# Altium schematic symbol library RLC.SchLib: 218 symbols (part 3 of 3)
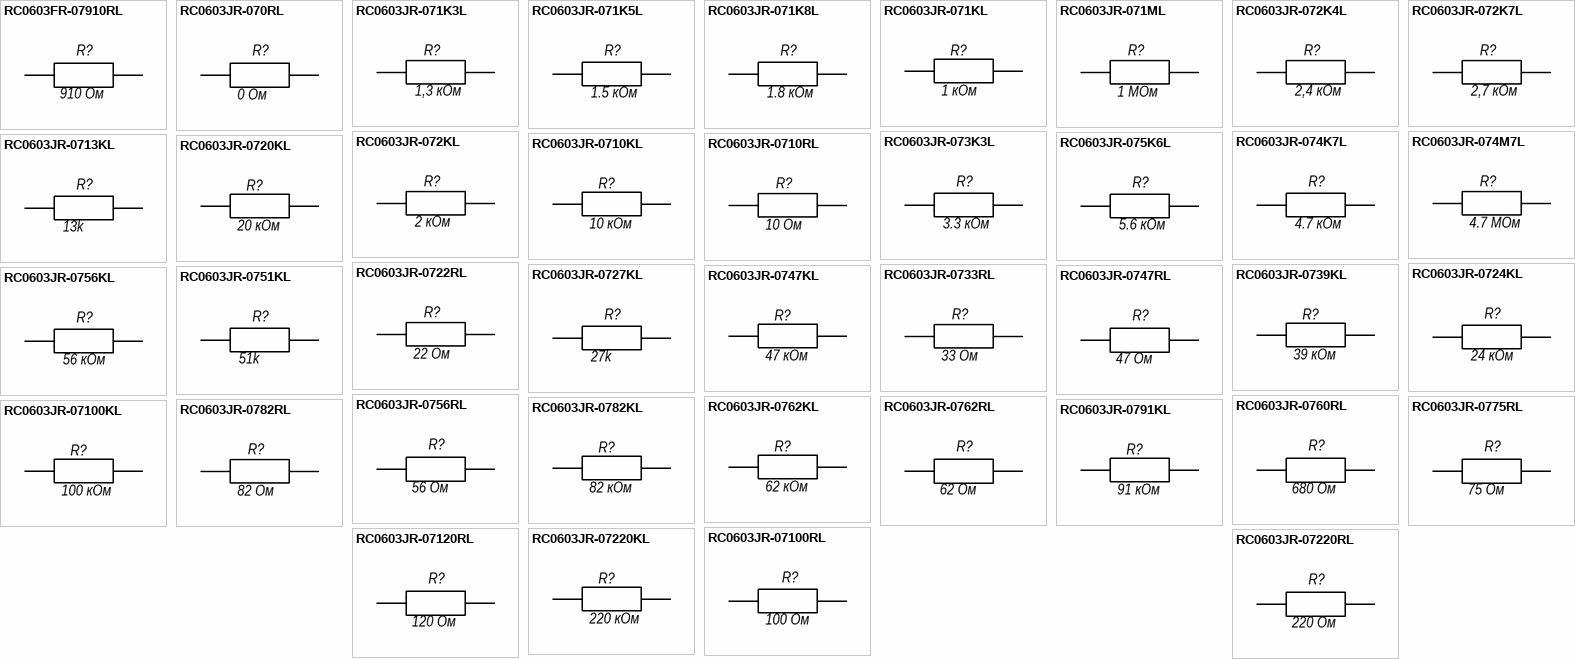
[diagram p7: symbols RC0603FR-07910RL to RC0603JR-07220RL]

## RC0603JR-0756KL
designator R?, comment 56 кОм
SMD 0603 -56 кОм±5 %; Part Number: RC0603JR-0756KL; Manufacturer: Yageo; BOM1: R0603 -56K Ohm±5 %; BOM2: RС0603 ±5 %-56 кОм; ValueBOM: RC0603JR-0756KL   Yageo                            (RС0603 ±5 %-56 кОм); Value: 56 кОм; Package: 0603
footprint RESC_0603_1608N (Chip Resistor, Body 1.6x0.8mm, IPC Medium Density)
footprint RESC_0603_1608M (Chip Resistor, Body 1.6x0.8mm, IPC Low Density)
footprint RESC_0603_1608L (Chip Resistor, Body 1.6x0.8mm, IPC High Density)
pins: 1, 2

## RC0603JR-0756RL
designator R?, comment 56 Ом
SMD 0603 -56 Ом±5 %; Part Number: RC0603JR-0756RL; Manufacturer: Yageo; BOM1: R0603 -56 Ohm±5 %; BOM2: RС0603 ±5 %-56 Ом; ValueBOM: RC0603JR-0756RL   Yageo                            (RС0603 ±5 %-56 Ом); Value: 56 Ом; Package: 0603
footprint RESC_0603_1608N (Chip Resistor, Body 1.6x0.8mm, IPC Medium Density)
footprint RESC_0603_1608M (Chip Resistor, Body 1.6x0.8mm, IPC Low Density)
footprint RESC_0603_1608L (Chip Resistor, Body 1.6x0.8mm, IPC High Density)
pins: 1, 2

## RC0603JR-0760RL
designator R?, comment 680 Ом
SMD 0603 -680 Ом±5 %; Part Number: RC0603FR-07680RL; Manufacturer: Yageo; BOM1: R0603 -680 Ohm±5 %; BOM2: RС0603 ±5 %-680 Ом; ValueBOM: RC0603FR-07680RL   Yageo                            (RС0603 ±5 %-680 Ом); Value: 680 Ом; Package: 0603
footprint RESC_0603_1608N (Chip Resistor, Body 1.6x0.8mm, IPC Medium Density)
footprint RESC_0603_1608M (Chip Resistor, Body 1.6x0.8mm, IPC Low Density)
footprint RESC_0603_1608L (Chip Resistor, Body 1.6x0.8mm, IPC High Density)
pins: 1, 2

## RC0603JR-0762KL
designator R?, comment 62 кОм
SMD 0603 -62 кОм±5 %; Part Number: RC0603JR-0762KL; Manufacturer: Yageo; BOM1: R0603 -62K Ohm±5 %; BOM2: RС0603 ±5 %-62 кОм; ValueBOM: RC0603JR-0762KL   Yageo                            (RС0603 ±5 %-62 кОм); Value: 62 кОм; Package: 0603
footprint RESC_0603_1608N (Chip Resistor, Body 1.6x0.8mm, IPC Medium Density)
footprint RESC_0603_1608M (Chip Resistor, Body 1.6x0.8mm, IPC Low Density)
footprint RESC_0603_1608L (Chip Resistor, Body 1.6x0.8mm, IPC High Density)
pins: 1, 2

## RC0603JR-0762RL
designator R?, comment 62 Ом
SMD 0603 -62 Ом±5 %; Part Number: RC0603JR-0762RL; Manufacturer: Yageo; BOM1: R0603 -62 Ohm±5 %; BOM2: RС0603 ±5 %-62 Ом; ValueBOM: RC0603JR-0762RL   Yageo                            (RС0603 ±5 %-62 Ом); Value: 62 Ом; Package: 0603
footprint RESC_0603_1608N (Chip Resistor, Body 1.6x0.8mm, IPC Medium Density)
footprint RESC_0603_1608M (Chip Resistor, Body 1.6x0.8mm, IPC Low Density)
footprint RESC_0603_1608L (Chip Resistor, Body 1.6x0.8mm, IPC High Density)
pins: 1, 2

## RC0603JR-0775RL
designator R?, comment 75 Ом
SMD 0603 -75 Ом±5 %; Part Number: RC0603JR-0775RL; Manufacturer: Yageo; BOM1: R0603 -75 Ohm±5 %; BOM2: RС0603 ±5 %-75 Ом; ValueBOM: RC0603JR-0775RL   Yageo                            (RС0603 ±5 %-75 Ом); Value: 75 Ом; Package: 0603
footprint RESC_0603_1608N (Chip Resistor, Body 1.6x0.8mm, IPC Medium Density)
footprint RESC_0603_1608M (Chip Resistor, Body 1.6x0.8mm, IPC Low Density)
footprint RESC_0603_1608L (Chip Resistor, Body 1.6x0.8mm, IPC High Density)
pins: 1, 2

## RC0603JR-0782KL
designator R?, comment 82 кОм
SMD 0603 -82 кОм±5 %; Part Number: RC0603JR-0782KL; Manufacturer: Yageo; BOM1: R0603 -82K Ohm±5 %; BOM2: RС0603 ±5 %-82 кОм; ValueBOM: RC0603JR-0782KL   Yageo                            (RС0603 ±5 %-82 кОм); Value: 82 кОм; Package: 0603
footprint RESC_0603_1608N (Chip Resistor, Body 1.6x0.8mm, IPC Medium Density)
footprint RESC_0603_1608M (Chip Resistor, Body 1.6x0.8mm, IPC Low Density)
footprint RESC_0603_1608L (Chip Resistor, Body 1.6x0.8mm, IPC High Density)
pins: 1, 2

## RC0603JR-0782RL
designator R?, comment 82 Ом
SMD 0603 -82 Ом±5 %; Part Number: RC0603JR-0782RL; Manufacturer: Yageo; BOM1: R0603 -82 Ohm±5 %; BOM2: RС0603 ±5 %-82 Ом; ValueBOM: RC0603JR-0782RL   Yageo                            (RС0603 ±5 %-82 Ом); Value: 82 Ом; Package: 0603
footprint RESC_0603_1608N (Chip Resistor, Body 1.6x0.8mm, IPC Medium Density)
footprint RESC_0603_1608M (Chip Resistor, Body 1.6x0.8mm, IPC Low Density)
footprint RESC_0603_1608L (Chip Resistor, Body 1.6x0.8mm, IPC High Density)
pins: 1, 2

## RC0603JR-0791KL
designator R?, comment 91 кОм
SMD 0603 -91 кОм±5 %; Part Number: RC0603JR-0791KL; Manufacturer: Yageo; BOM1: R0603 -91K Ohm±5 %; BOM2: RС0603 ±5 %-91 кОм; ValueBOM: RC0603JR-0791KL   Yageo                            (RС0603 ±5 %-91 кОм); Value: 91 кОм; Package: 0603
footprint RESC_0603_1608N (Chip Resistor, Body 1.6x0.8mm, IPC Medium Density)
footprint RESC_0603_1608M (Chip Resistor, Body 1.6x0.8mm, IPC Low Density)
footprint RESC_0603_1608L (Chip Resistor, Body 1.6x0.8mm, IPC High Density)
pins: 1, 2

## RC0603JR-07100KL
designator R?, comment 100 кОм
SMD 0603 -100 кОм±5 %; Part Number: RC0603JR-07100KL; Manufacturer: Yageo; BOM1: R0603 -100K Ohm±5 %; BOM2: RС0603 ±5 %-100 кОм; ValueBOM: RC0603JR-07100KL   Yageo                            (RС0603 ±5 %-100 кОм); Value: 100 кОм; Package: 0603
footprint RESC_0603_1608N (Chip Resistor, Body 1.6x0.8mm, IPC Medium Density)
footprint RESC_0603_1608M (Chip Resistor, Body 1.6x0.8mm, IPC Low Density)
footprint RESC_0603_1608L (Chip Resistor, Body 1.6x0.8mm, IPC High Density)
pins: 1, 2

## RC0603JR-07100RL
designator R?, comment 100 Ом
SMD 0603 -100 Ом±5 %; Part Number: RC0603JR-07100RL; Manufacturer: Yageo; BOM1: R0603 -100 Ohm±5 %; BOM2: RС0603 ±5 %-100 Ом; ValueBOM: RC0603JR-07100RL   Yageo                            (RС0603 ±5 %-100 Ом); Value: 100 Ом; Package: 0603
footprint RESC_0603_1608N (Chip Resistor, Body 1.6x0.8mm, IPC Medium Density)
footprint RESC_0603_1608M (Chip Resistor, Body 1.6x0.8mm, IPC Low Density)
footprint RESC_0603_1608L (Chip Resistor, Body 1.6x0.8mm, IPC High Density)
pins: 1, 2

## RC0603JR-07120RL
designator R?, comment 120 Ом
SMD 0603 -120 Ом±5 %; Part Number: RC0603JR-07120RL; Manufacturer: Yageo; BOM1: R0603 -120 Ohm±5 %; BOM2: RС0603 ±5 %-120 Ом; ValueBOM: RC0603JR-07120RL   Yageo                            (RС0603 ±5 %-120 Ом); Value: 120 Ом; Package: 0603
footprint RESC_0603_1608N (Chip Resistor, Body 1.6x0.8mm, IPC Medium Density)
footprint RESC_0603_1608M (Chip Resistor, Body 1.6x0.8mm, IPC Low Density)
footprint RESC_0603_1608L (Chip Resistor, Body 1.6x0.8mm, IPC High Density)
pins: 1, 2

## RC0603JR-07220KL
designator R?, comment 220 кОм
SMD 0603 -220 кОм±5 %; Part Number: RC0603JR-07220KL; Manufacturer: Yageo; BOM1: R0603 -220K Ohm±5 %; BOM2: RС0603 ±5 %-220 кОм; ValueBOM: RC0603JR-07220KL   Yageo                            (RС0603 ±5 %-220 кОм); Value: 220 кОм; Package: 0603
footprint RESC_0603_1608N (Chip Resistor, Body 1.6x0.8mm, IPC Medium Density)
footprint RESC_0603_1608M (Chip Resistor, Body 1.6x0.8mm, IPC Low Density)
footprint RESC_0603_1608L (Chip Resistor, Body 1.6x0.8mm, IPC High Density)
pins: 1, 2

## RC0603JR-07220RL
designator R?, comment 220 Ом
SMD 0603 -220 Ом±5 %; Part Number: RC0603JR-07220RL; Manufacturer: Yageo; BOM1: R0603 -220 Ohm±5 %; BOM2: RС0603 ±5 %-220 Ом; ValueBOM: RC0603JR-07220RL   Yageo                            (RС0603 ±5 %-220 Ом); Value: 220 Ом; Package: 0603
footprint RESC_0603_1608N (Chip Resistor, Body 1.6x0.8mm, IPC Medium Density)
footprint RESC_0603_1608M (Chip Resistor, Body 1.6x0.8mm, IPC Low Density)
footprint RESC_0603_1608L (Chip Resistor, Body 1.6x0.8mm, IPC High Density)
pins: 1, 2

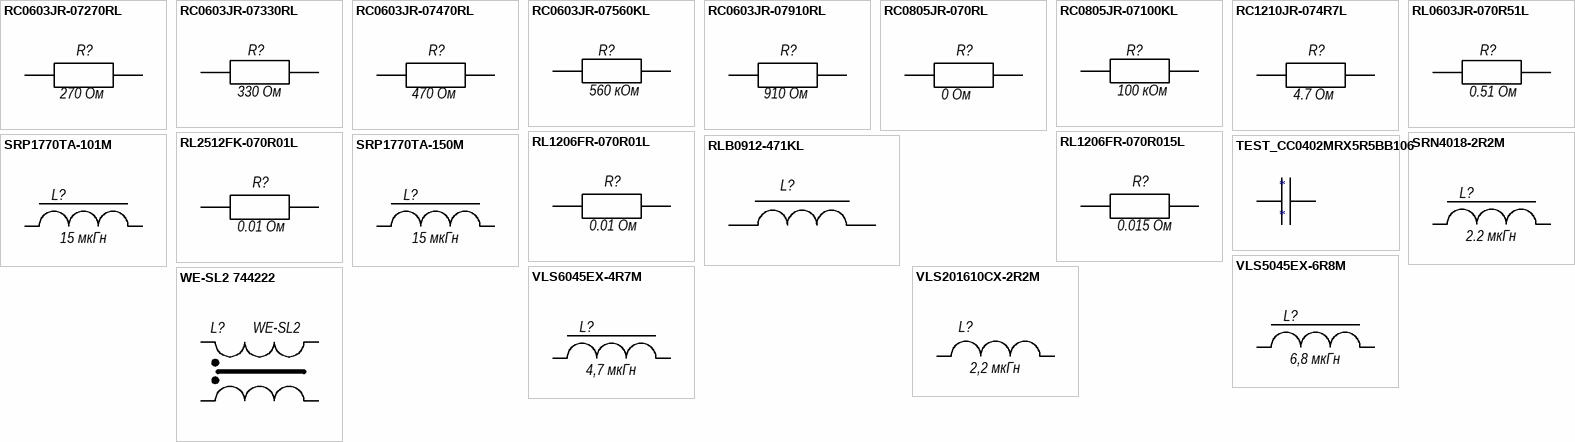
[diagram p5: symbols RC0603JR-07270RL to WE-SL2 744222]

## RC0603JR-07270RL
designator R?, comment 270 Ом
SMD 0603 -270 Ом±5 %; Part Number: RC0603FR-07270RL; Manufacturer: Yageo; BOM1: R0603 -270 Ohm±5 %; BOM2: RС0603 ±5 %-270 Ом; ValueBOM: RC0603FR-07270RL   Yageo                            (RС0603 ±5 %-270 Ом); Value: 270 Ом; Package: 0603
footprint RESC_0603_1608N (Chip Resistor, Body 1.6x0.8mm, IPC Medium Density)
footprint RESC_0603_1608M (Chip Resistor, Body 1.6x0.8mm, IPC Low Density)
footprint RESC_0603_1608L (Chip Resistor, Body 1.6x0.8mm, IPC High Density)
pins: 1, 2

## RC0603JR-07330RL
designator R?, comment 330 Ом
SMD 0603 -330 Ом±5 %; Part Number: RC0603JR-07330RL; Manufacturer: Yageo; BOM1: R0603 -330 Ohm±5 %; BOM2: RС0603 ±5 %-330 Ом; ValueBOM: RC0603JR-07330RL   Yageo                            (RС0603 ±5 %-330 Ом); Value: 330 Ом; Package: 0603
footprint RESC_0603_1608N (Chip Resistor, Body 1.6x0.8mm, IPC Medium Density)
footprint RESC_0603_1608M (Chip Resistor, Body 1.6x0.8mm, IPC Low Density)
footprint RESC_0603_1608L (Chip Resistor, Body 1.6x0.8mm, IPC High Density)
pins: 1, 2

## RC0603JR-07470RL
designator R?, comment 470 Ом
SMD 0603 -470 Ом±5 %; Part Number: RC0603JR-07470RL; Manufacturer: Yageo; BOM1: R0603 -470 Ohm±5 %; BOM2: RС0603 ±5 %-470 Ом; ValueBOM: RC0603JR-07470RL   Yageo                            (RС0603 ±5 %-470 Ом); Value: 470 Ом; Package: 0603
footprint RESC_0603_1608N (Chip Resistor, Body 1.6x0.8mm, IPC Medium Density)
footprint RESC_0603_1608M (Chip Resistor, Body 1.6x0.8mm, IPC Low Density)
footprint RESC_0603_1608L (Chip Resistor, Body 1.6x0.8mm, IPC High Density)
pins: 1, 2

## RC0603JR-07560KL
designator R?, comment 560 кОм
SMD 0603 -560 кОм±5 %; Part Number: RC0603JR-07560KL; Manufacturer: Yageo; BOM1: R0603 -560K Ohm±5 %; BOM2: RС0603 ±5 %-560 кОм; ValueBOM: RC0603JR-07560KL   Yageo                            (RС0603 ±5 %-560 кОм); Value: 560 кОм; Package: 0603
footprint RESC_0603_1608N (Chip Resistor, Body 1.6x0.8mm, IPC Medium Density)
footprint RESC_0603_1608M (Chip Resistor, Body 1.6x0.8mm, IPC Low Density)
footprint RESC_0603_1608L (Chip Resistor, Body 1.6x0.8mm, IPC High Density)
pins: 1, 2

## RC0603JR-07910RL
designator R?, comment 910 Ом
SMD 0603 -910 Ом±5 %; Part Number: RC0603JR-07910RL; Manufacturer: Yageo; BOM1: R0603 -910 Ohm±5 %; BOM2: RС0603 ±5 %-910 Ом; ValueBOM: RC0603JR-07910RL   Yageo                            (RС0603 ±5 %-910 Ом); Value: 910 Ом; Package: 0603
footprint RESC_0603_1608N (Chip Resistor, Body 1.6x0.8mm, IPC Medium Density)
footprint RESC_0603_1608M (Chip Resistor, Body 1.6x0.8mm, IPC Low Density)
footprint RESC_0603_1608L (Chip Resistor, Body 1.6x0.8mm, IPC High Density)
pins: 1, 2

## RC0805JR-070RL
designator R?, comment 0 Ом
SMD 0805 -0 Ом±5 %; Part Number: RC0805JR-070RL; Manufacturer: Yageo; BOM1: R0805 -0 Ohm±5 %; BOM2: RС0805 ±5 %-0 Ом; ValueBOM: RC0805JR-070RL   Yageo                            (RС0805 ±5 %-0 Ом); Value: 0 Ом; Package: 0805
footprint RESC_0805_2012L (Chip Resistor, Body 2.0x1.3mm, IPC High Density)
footprint RESC_0805_2012M (Chip Resistor, Body 2.0x1.3mm, IPC Low Density)
footprint RESC_0805_2012N (Chip Resistor, Body 2.0x1.3mm, IPC Medium Density)
pins: 1, 2

## RC0805JR-07100KL
designator R?, comment 100 кОм
SMD 0805 -100 кОм±5 %; Part Number: RC0805JR-07100KL; Manufacturer: Yageo; BOM1: R0805 -100K Ohm±5 %; BOM2: RС0805 ±5 %-100 кОм; ValueBOM: RC0805JR-07100KL   Yageo                            (RС0805 ±5 %-100 кОм); Value: 100 кОм; Package: 0805
footprint RESC_0805_2012N (Chip Resistor, Body 2.0x1.3mm, IPC Medium Density)
footprint RESC_0805_2012M (Chip Resistor, Body 2.0x1.3mm, IPC Low Density)
footprint RESC_0805_2012L (Chip Resistor, Body 2.0x1.3mm, IPC High Density)
pins: 1, 2

## RC1210JR-074R7L
designator R?, comment 4.7 Ом
Res 1210 4.7 Ohm 5% 0.5W(1/2W); Part Number: RC1210JR-074R7L; Manufacturer: Yageo; BOM1: R1206 -4.7 Ohm±5 %; BOM2: RС1206 ±5 %-4.7 Ом; ValueBOM: RC1210JR-074R7L   Yageo                            (RС1206 ±5 %-4.7 Ом); Value: 4.7 Ом; Package: 1206
footprint RESC_1206_3216L (Chip Resistor, Body 3.2x1.6mm, IPC High Density)
footprint RESC_1206_3216M (Chip Resistor, Body 3.2x1.6mm, IPC Low Density)
footprint RESC_1206_3216N (Chip Resistor, Body 3.2x1.6mm, IPC Medium Density)
pins: 1, 2

## RL0603JR-070R51L
designator R?, comment 0.51 Ом
SMD 0603 -0.51 Ом±5 %; Part Number: RL0603JR-070R51L; Manufacturer: Yageo; BOM1: R0603 -0.51 Ом Ohm±5 %; BOM2: RС0603 ±5 %-0.51 Ом Ом; ValueBOM: RL0603JR-070R51L   Yageo                            (RС0603 ±5 %-0.51 Ом Ом); Value: 0.51 Ом; Package: 0603
footprint RESC_0603_1608N (Chip Resistor, Body 1.6x0.8mm, IPC Medium Density)
footprint RESC_0603_1608M (Chip Resistor, Body 1.6x0.8mm, IPC Low Density)
footprint RESC_0603_1608L (Chip Resistor, Body 1.6x0.8mm, IPC High Density)
pins: 1, 2

## RL1206FR-070R01L
designator R?, comment 0.01 Ом
SMD 1206 -0.01 Ом±1 %; Part Number: RL1206FR-070R01L; Manufacturer: Yageo; BOM1: R1206 -0.01 Ohm±1 %; BOM2: RС1206 ±1 %-0.01 Ом; ValueBOM: RL1206FR-070R01L   Yageo                            (RС1206 ±1 %-0.01 Ом); Value: 0.01 Ом; Package: 1206
footprint RESC_1206_3216L (Chip Resistor, Body 3.2x1.6mm, IPC High Density)
footprint RESC_1206_3216M (Chip Resistor, Body 3.2x1.6mm, IPC Low Density)
footprint RESC_1206_3216N (Chip Resistor, Body 3.2x1.6mm, IPC Medium Density)
pins: 1, 2

## RL1206FR-070R015L
designator R?, comment 0.015 Ом
SMD 1206 -0.015 Ом±1 %; Part Number: RL1206FR-070R015L; Manufacturer: Yageo; BOM1: R1206 -0.015 Ohm±1 %; BOM2: RС1206 ±1 %-0.015 Ом; ValueBOM: RL1206FR-070R015L   Yageo                            (RС1206 ±1 %-0.015 Ом); Value: 0.015 Ом; Package: 1206
footprint RESC_1206_3216L (Chip Resistor, Body 3.2x1.6mm, IPC High Density)
footprint RESC_1206_3216M (Chip Resistor, Body 3.2x1.6mm, IPC Low Density)
footprint RESC_1206_3216N (Chip Resistor, Body 3.2x1.6mm, IPC Medium Density)
pins: 1, 2

## RL2512FK-070R01L
designator R?, comment 0.01 Ом
Res 2512 0.01 Ohm 1% 1W ±1500ppm/C Epoxy SMD T/R; Part Number: RL2512FK-070R01L; Manufacturer: Yageo; BOM1: R2512 -0.01 Ohm±1 %; BOM2: RС2512 ±1 %-0.01 Ом; ValueBOM: RL2512FK-070R01L   Yageo                            (RС2512 ±1 %-0.01 Ом); Value: 0.01 Ом; Package: 2512
footprint RESC_2512_6332L (Chip Resistor, Body 6.3x3.2mm, IPC High Density)
footprint RESC_2512_6332N (Chip Resistor, Body 6.3x3.2mm, IPC Medium Density)
footprint RESC_2512_6332M (Chip Resistor, Body 6.3x3.2mm, IPC Low Density)
pins: 1, 2

## RLB0912-471KL
designator L?  (value not drawn)
RLB0912-471KL Inductor Power Wirewound 470uH 10% 1KHz 25Q-Factor Ferrite 600mA 1.7Ohm DCR RDL Bag; Vendor Code: *; Value: RLB0912-471KL
footprint RLB0912_vertical
pins: 1, 2
1 alternate drawing of the same symbol

## SRN4018-2R2M
designator L?, comment 2.2 мкГн
Inductor Power Semi-Shielded Wirewound 2.2uH 20% 100KHz 9Q-Factor Ferrite 2.9A 44mOhm DCR 1515 T/R; Part Number: SRN4018-2R2M; Manufacturer: Bourns Inc.; BOM1: SMD SRN4018-2R2M 2.2 uHr±30% 2.9 А; ValueBOM: SRN4018-2R2M   Bourns Inc.                            (SMD SRN4018-2R2M 2.2 uHr±30% 2.9 А); Value: 2.2 мкГн; Package: SMD 4.0*4.0*1.8 SMD SRN4018; BOM2: SMD SRN4018-2R2M 2.2 uHr±30% 2.9 А
footprint SRN4018 (SMD 4.0?4.0?1.8 mm. magnetic-resin shielded power Inductor)
pins: 1, 2

## SRP1770TA-101M
designator L?, comment 15 мкГн
Inductor Power Shielded Wirewound 100uH 20% 100KHz 20Q-Factor Carbonyl Powder 5.3A 0.18Ohm DCR Automotive; Part Number: SRP1770TA-101M; Manufacturer: Bourns Inc.; BOM1: SMD SRP1770TA-101M 100 uHr±20% 12.5 A; BOM2: SMD SRP1770TA-101M 100 мкГн±20% 12.5 А; ValueBOM: SRP1770TA-101M   Bourns Inc.                            (SMD SRP1770TA-101M 100 мкГн±20% 12.5 А); Value: 15 мкГн; Package: IHLP6767
footprint MPX1D1770 (MPX1D1770 = 17x17x7.0 mm)
pins: 1, 2

## SRP1770TA-150M
designator L?, comment 15 мкГн
Inductor Power Shielded Wirewound 15uH 20% 100KHz 20Q-Factor Carbonyl Powder 12.5A 0.0205Ohm DCR Automotive; Part Number: SRP1770TA-150M; Manufacturer: Bourns Inc.; BOM1: SMD SRP1770TA-150M 15 uHr±20% 12.5 A; BOM2: SMD SRP1770TA-150M 15 мкГн±20% 12.5 А; ValueBOM: SRP1770TA-150M   Bourns Inc.                            (SMD SRP1770TA-150M 15 мкГн±20% 12.5 А); Value: 15 мкГн; Package: IHLP6767
footprint MPX1D1770 (MPX1D1770 = 17x17x7.0 mm)
pins: 1, 2

## TEST_CC0402MRX5R5BB106
designator *
SMD 0402 -10 мкФ±10 %-6,3 B-X5R; Part Number: CC0402MRX5R5BB106; Manufacturer: TestVendor; Value: 33 uF; BOM1: C0402C-10 uF±10 %-6,3 V-X5R; BOM2: C0402С-10 мкФ ±10 % -6,3 B-X5R; ValueBOM: CC0402MRX5R5BB106   TestVendor                            (C0402С-10 мкФ ±10 % -6,3 B-X5R); Package: 0402
footprint CAPC_0402_1005N (Chip Capacitor, Body 1.1x0.5mm, IPC Medium Density)
footprint CAPC_0402_1005M (Chip Capacitor, Body 1.1x0.5mm, IPC Low Density)
footprint CAPC_0402_1005L (Chip Capacitor, Body 1.1x0.5mm, IPC High Density)
pins: 1, 2

## VLS5045EX-6R8M
designator L?, comment 6,8 мкГн
SMD 5*5*4,5 Inductor Power 6,8uH 20% 100KHz Ferrite 2,9A 46mOhm; Part Number: VLS5045EX-6R8M; Manufacturer: TDK; BOM1: SMD VLS5045EX-6R8M 6,8 uHr±20% 2,9 A; BOM2: SMD VLS5045EX-6R8M 6,8 мкГн±20% 2,9 А; ValueBOM: VLS5045EX-6R8M   TDK                            (SMD VLS5045EX-6R8M 6,8 мкГн±20% 2,9 А); Value: 6,8 мкГн; Package: SMD 5*5*4,5
footprint SRN5040 (SMD 5.0?5.0?4.0 mm. magnetic-resin shielded power Inductor)
pins: 1, 2

## VLS6045EX-4R7M
designator L?, comment 4,7 мкГн
SMD 6*6*4,5 Inductor Power 4,7uH 20% 100KHz Ferrite 4,2A 27mOhm; Part Number: VLS6045EX-4R7M; Manufacturer: TDK; BOM1: SMD VLS6045EX-4R7M 4,7 uHr±20% 4,2 A; BOM2: SMD VLS6045EX-4R7M 4,7 мкГн±20% 4,2 А; ValueBOM: VLS6045EX-4R7M   TDK                            (SMD VLS6045EX-4R7M 4,7 мкГн±20% 4,2 А); Value: 4,7 мкГн; Package: SMD 6*6*4,5
footprint SRN6045 (SMD 6.0?6.0?4.5 mm. magnetic-resin shielded power Inductor)
pins: 1, 2

## VLS201610CX-2R2M
designator L?, comment 2,2 мкГн
SMD 0806 -2,2 мкГн±20% 1,8 A; Part Number: VLS201610CX-2R2M-1; Manufacturer: TDK electronics; BOM1: SMD 0806 2,2 uHr±20% 1,8 A; BOM2: VLS2016-2,2 мкГн±20% 1,8 A; ValueBOM: VLS201610CX-2R2M-1   TDK electronics                            (VLS2016-2,2 мкГн±20% 1,8 A); Value: 2,2 мкГн; Package: 0806
footprint INDC_0805_2012N (Chip Inductor, Body 2.0x1.3mm, IPC Medium Density)
footprint INDC_0805_2012M (Chip Inductor, Body 2.0x1.3mm, IPC Low Density)
footprint INDC_0805_2012L (Chip Inductor, Body 2.0x1.3mm, IPC High Density)
pins: 1, 2

## WE-SL2 744222
designator L?, comment WE-SL2
WE-SL2 SMT Common Mode Line Filter; Part Number: WE-SL2 744222; Manufacturer: WE; ValueBOM: WE-SL2 744222   WE                            (WE-SL2 744222); Value: WE-SL2; Package: WE-SL2; BOM1: WE-SL2 744222; BOM2: WE-SL2 744222
footprint WE-SL2
pins: 1, 2, 3, 4